# Altium footprint library PCB2.PcbLib: 56 footprints (part 2 of 4)
Each footprint in its own frame and in the unit in brackets; x right, y up, seen from the top. Pads: shape width x height; smd on the part's side, far side on the other; paste and mask are expansions set on the pad; w line width, h text height; cw(c..) or ccw(c..) is an arc to the next point about the centre after c.
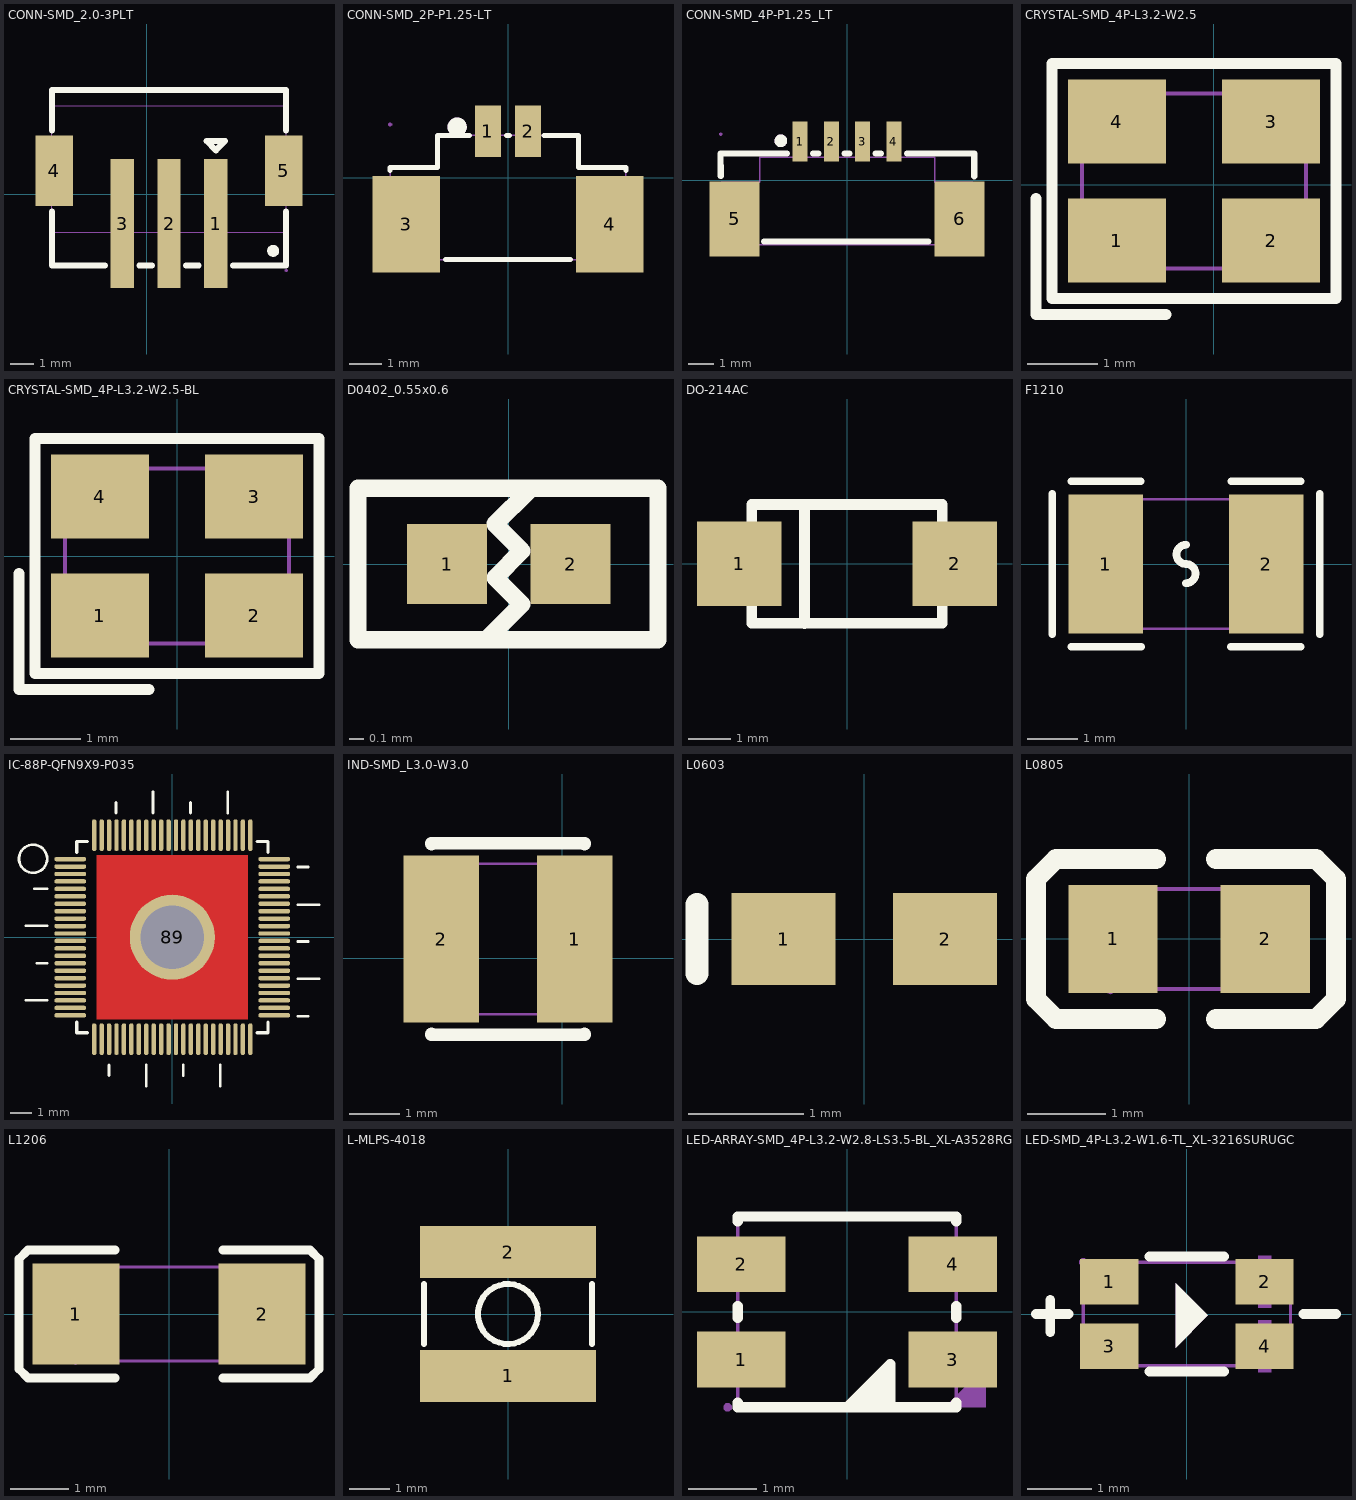
[diagram p1: the footprints below, top view; thin cyan lines are the x and y axes]

## CONN-SMD_2.0-3PLT [mm]
height 6.86
pads (5):
  rect 1x5.5 smd: 1(2.95,-1.263) 2(0.95,-1.263) 3(-1.05,-1.263)
  rect 1.6x3 smd: 4(-3.95,0.987) 5(5.85,0.987)
Top Overlay:
  circle w0.254: c5.395,-2.424 r0.127
  lines w0.254: -4.05,-0.744 -4.05,-3.059 -1.781,-3.059 ; -4.05,2.718 -4.05,4.441 5.95,4.441 5.95,2.718 ; -0.319,-3.059 0.219,-3.059 ; 1.681,-3.059 2.219,-3.059 ; 3.681,-3.059 5.95,-3.059 5.95,-0.744 ; 2.55,2.262 2.95,1.862 3.35,2.262 2.55,2.262
Mechanical 6:
  circle w0.4: c2.95,-3.538 r0.2
Mechanical 15:
  region: 6.01,-3.263 6.01,-3.288 5.975,-3.323 5.925,-3.323 5.89,-3.288 5.89,-3.263 5.89,-3.238 5.925,-3.203 5.975,-3.203 6.01,-3.238
  region: -1.3,0.737 -0.8,0.737 -0.8,-3.263 -1.3,-3.263
  region: 0.7,0.737 1.2,0.737 1.2,-3.263 0.7,-3.263
  region: 2.7,0.737 3.2,0.737 3.2,-3.263 2.7,-3.263
  region: 5.95,2.212 5.1,2.212 5.1,-0.188 5.95,-0.188
  region: -4.05,-0.238 -3.3,-0.238 -3.2,-0.238 -3.2,2.162 -3.25,2.162 -4.05,2.162
  lines w0.051: -4.05,-1.638 -4.05,3.762 5.95,3.762 5.95,-1.638 -4.05,-1.638

## CONN-SMD_2P-P1.25-LT [mm]
height 6.86
pads (4):
  rect 0.8x1.6 smd paste+0 mask+0.05: 1(-0.625,1.45) 2(0.625,1.45)
  rect 2.1x3 smd paste+0 mask+0.05: 3(-3.175,-1.45) 4(3.175,-1.45)
Top Overlay:
  circle w0.3: c-1.585,1.58 r0.15
  lines w0.152: -3.68,0.23 -3.68,0.32 -2.2,0.32 -2.2,1.32 -1.205,1.32 ; -1.945,-2.55 1.945,-2.55 ; -0.045,1.32 0.045,1.32 ; 1.12,1.32 2.2,1.32 2.2,0.32 3.68,0.32 3.68,0.23
Mechanical 2:
  circle w0.3: c-1.585,1.58 r0.15
Mechanical 6:
  lines w0.051: -3.675,-2.55 3.675,-2.55 3.675,0.32 2.2,0.32 2.2,1.32 0,1.32 -2.19,1.32 -2.2,0.32 -3.675,0.32 -3.675,-2.55
Mechanical 8:
  region: -3.615,1.66 -3.615,1.635 -3.65,1.6 -3.7,1.6 -3.735,1.635 -3.735,1.66 -3.735,1.685 -3.7,1.72 -3.65,1.72 -3.615,1.685
Mechanical 9:
  region: 2.475,-0.35 3.675,-0.35 3.675,-2.55 2.475,-2.55
  region: -3.675,-0.35 -2.475,-0.35 -2.475,-2.55 -3.675,-2.55
  region: 0.475,1.66 0.775,1.66 0.775,0.66 0.475,0.66
  region: -0.775,1.66 -0.475,1.66 -0.475,0.66 -0.775,0.66

## CONN-SMD_4P-P1.25_LT [mm]
height 6.86
pads (6):
  rect 0.6x1.6 smd paste+0.051: 1(-1.875,1.55) 2(-0.625,1.55) 3(0.625,1.55) 4(1.875,1.55)
  rect 2x3 smd paste+0.051: 5(-4.5,-1.55) 6(4.5,-1.55)
Top Overlay:
  circle w0.254: c-2.647,1.578 r0.127
  lines w0.254: -5.05,0.17 -5.06,1.07 -2.406,1.07 ; -3.32,-2.45 3.25,-2.45 ; -1.344,1.07 -1.156,1.07 ; -0.094,1.07 0.094,1.07 ; 1.156,1.07 1.344,1.07 ; 2.407,1.07 5.09,1.07 5.09,0.16
Mechanical 2:
  circle w0.254: c-2.647,1.578 r0.127
Mechanical 6:
  lines w0.051: -5.05,-2.57 5.05,-2.57 5.05,-0.07 3.5,-0.07 3.5,0.93 -3.5,0.93 -3.5,-0.07 -5.05,-0.07 -5.05,-2.57
Mechanical 8:
  region: -4.99,1.85 -4.99,1.825 -5.025,1.79 -5.075,1.79 -5.11,1.825 -5.11,1.85 -5.11,1.875 -5.075,1.91 -5.025,1.91 -4.99,1.875
Mechanical 9:
  region: -5,-0.95 -4,-0.95 -4,-2.45 -5,-2.45
  region: -0.775,1.85 -0.475,1.85 -0.475,0.85 -0.775,0.85
  region: -2.025,1.85 -1.725,1.85 -1.725,0.85 -2.025,0.85
  region: 4,-0.95 5,-0.95 5,-2.45 4,-2.45
  region: 1.725,1.85 2.025,1.85 2.025,0.85 1.725,0.85
  region: 0.475,1.85 0.775,1.85 0.775,0.85 0.475,0.85

## CRYSTAL-SMD_4P-L3.2-W2.5 [mm]
height 6.86
pads (4):
  rect 1.4x1.2 smd: 1(-1.383,-0.797) 2(0.817,-0.797) 3(0.817,0.903) 4(-1.383,0.903)
Top Overlay:
  lines w0.152: -2.54,-0.197 -2.54,-1.854 -0.683,-1.854 ; -2.311,-1.626 1.746,-1.626 1.746,1.732 -2.311,1.732 -2.311,-1.626
Mechanical 6:
  circle w0.36: c-1.426,-0.836 r0.18
Mechanical 15:
  region: -1.783,-0.297 -0.883,-0.297 -0.883,-1.097 -1.783,-1.097
  region: 0.317,-0.297 1.217,-0.297 1.217,-1.097 0.317,-1.097
  region: 0.317,1.203 1.217,1.203 1.217,0.403 0.317,0.403
  region: -1.783,1.203 -0.883,1.203 -0.883,0.403 -1.783,0.403
  region: -1.823,-1.197 -1.823,-1.172 -1.858,-1.137 -1.908,-1.137 -1.943,-1.172 -1.943,-1.197 -1.943,-1.222 -1.908,-1.257 -1.858,-1.257 -1.823,-1.222
  lines w0.051: -1.883,-1.197 1.317,-1.197 1.317,1.303 -1.883,1.303 -1.883,-1.197

## CRYSTAL-SMD_4P-L3.2-W2.5-BL [mm]
height 6.86
pads (4):
  rect 1.4x1.2 smd: 1(-1.1,-0.85) 2(1.1,-0.85) 3(1.1,0.85) 4(-1.1,0.85)
Top Overlay:
  lines w0.152: -2.257,-0.25 -2.257,-1.907 -0.4,-1.907 ; -2.029,-1.678 2.029,-1.678 2.029,1.679 -2.029,1.679 -2.029,-1.678
Mechanical 6:
  circle w0.36: c-1.143,-0.889 r0.18
Mechanical 15:
  region: -1.5,-0.35 -0.6,-0.35 -0.6,-1.15 -1.5,-1.15
  region: 0.6,-0.35 1.5,-0.35 1.5,-1.15 0.6,-1.15
  region: 0.6,1.15 1.5,1.15 1.5,0.35 0.6,0.35
  region: -1.5,1.15 -0.6,1.15 -0.6,0.35 -1.5,0.35
  region: -1.665,-1.25 -1.646,-1.204 -1.6,-1.185 -1.554,-1.204 -1.535,-1.25 -1.554,-1.296 -1.6,-1.315 -1.646,-1.296
  lines w0.051: -1.6,-1.25 1.6,-1.25 1.6,1.25 -1.6,1.25 -1.6,-1.25

## D0402_0.55x0.6 [mm]
height 6.86
pads (2):
  rect 0.55x0.55 smd: 1(-0.425,0) 2(0.425,0)
Top Overlay:
  lines w0.12: -0.152,-0.518 0.089,-0.277 -0.094,-0.094 0.09,0.09 -0.094,0.273 -0.094,0.276 0.138,0.508 ; -1.039,-0.52 1.026,-0.52 1.026,0.52 -1.039,0.52 -1.039,-0.52

## DO-214AC [mm]
height 6.86
pads (2):
  rect 2x2 smd: 1(-2.54,0) 2(2.54,0)
Top Overlay:
  lines w0.254: -1.005,-1.407 -1.005,1.396 ; -2.25,-1.4 -2.25,1.4 2.25,1.4 2.25,-1.4 -2.25,-1.4

## F1210 [mm]
height 6.86
pads (2):
  rect 1.485x2.781 smd: 1(-1.6,0) 2(1.6,0)
Top Overlay:
  lines w0.152: -2.667,-1.397 -2.667,1.397 ; -2.286,-1.651 -0.889,-1.651 ; -2.286,1.651 -0.903,1.651 ; 0,-0.381 ccw(c0,-0.191) 0,0 cw(c0,0.191) 0,0.381 ; 0.889,-1.651 2.286,-1.651 ; 0.903,1.651 2.286,1.651 ; 2.667,-1.397 2.667,1.397
Top Paste:
  region: 0.858,-1.29 0.858,-0.573 0.958,-0.473 1.262,-0.473 1.362,-0.373 1.362,0.373 1.262,0.473 0.958,0.473 0.858,0.573 0.858,1.29 0.958,1.39 2.242,1.39 2.342,1.29 2.342,-1.29 2.242,-1.39 0.958,-1.39
  region: -0.858,-1.29 -0.858,-0.573 -0.958,-0.473 -1.262,-0.473 -1.362,-0.373 -1.362,0.373 -1.262,0.473 -0.958,0.473 -0.858,0.573 -0.858,1.29 -0.958,1.39 -2.242,1.39 -2.342,1.29 -2.342,-1.29 -2.242,-1.39 -0.958,-1.39
Mechanical 15:
  region: -1.672,-1.288 -1.653,-1.333 -1.608,-1.352 -1.562,-1.333 -1.543,-1.288 -1.562,-1.242 -1.608,-1.223 -1.653,-1.242
  region: -1.607,-1.288 -1.607,1.288 -1.107,1.288 -1.107,-1.288
  region: 1.607,-1.288 1.607,1.288 1.107,1.288 1.107,-1.288
  lines w0.051: -1.607,-1.288 -1.607,1.288 1.607,1.288 1.607,-1.288 -1.607,-1.288

## IC-88P-QFN9X9-P035 [mm]
height 1.27
pads (89):
  oval 1.5x0.21 smd: 1(-4.8,3.675) 2(-4.8,3.325) 3(-4.8,2.975) 4(-4.8,2.625) 5(-4.8,2.275) 6(-4.8,1.925) 7(-4.8,1.575) 8(-4.8,1.225) 9(-4.8,0.875) 10(-4.8,0.525) 11(-4.8,0.175) 12(-4.8,-0.175) 13(-4.8,-0.525) 14(-4.8,-0.875) 15(-4.8,-1.225) 16(-4.8,-1.575) 17(-4.8,-1.925) 18(-4.8,-2.275) 19(-4.8,-2.625) 20(-4.8,-2.975) 21(-4.8,-3.325) 22(-4.8,-3.675) 45(4.8,-3.675) 46(4.8,-3.325) 47(4.8,-2.975) 48(4.8,-2.625) 49(4.8,-2.275) 50(4.8,-1.925) 51(4.8,-1.575) 52(4.8,-1.225) 53(4.8,-0.875) 54(4.8,-0.525) 55(4.8,-0.175) 56(4.8,0.175) 57(4.8,0.525) 58(4.8,0.875) 59(4.8,1.225) 60(4.8,1.575) 61(4.8,1.925) 62(4.8,2.275) 63(4.8,2.625) 64(4.8,2.975) 65(4.8,3.325) 66(4.8,3.675)
  oval 0.21x1.5 smd: 23(-3.675,-4.8) 24(-3.325,-4.8) 25(-2.975,-4.8) 26(-2.625,-4.8) 27(-2.275,-4.8) 28(-1.925,-4.8) 29(-1.575,-4.8) 30(-1.225,-4.8) 31(-0.875,-4.8) 32(-0.525,-4.8) 33(-0.175,-4.8) 34(0.175,-4.8) 35(0.525,-4.8) 36(0.875,-4.8) 37(1.225,-4.8) 38(1.575,-4.8) 39(1.925,-4.8) 40(2.275,-4.8) 41(2.625,-4.8) 42(2.975,-4.8) 43(3.325,-4.8) 44(3.675,-4.8) 67(3.675,4.8) 68(3.325,4.8) 69(2.975,4.8) 70(2.625,4.8) 71(2.275,4.8) 72(1.925,4.8) 73(1.575,4.8) 74(1.225,4.8) 75(0.875,4.8) 76(0.525,4.8) 77(0.175,4.8) 78(-0.175,4.8) 79(-0.525,4.8) 80(-0.875,4.8) 81(-1.225,4.8) 82(-1.575,4.8) 83(-1.925,4.8) 84(-2.275,4.8) 85(-2.625,4.8) 86(-2.975,4.8) 87(-3.325,4.8) 88(-3.675,4.8)
  round 4 hole 3: 89(0,0)
Top Layer:
  region: -3.55,3.85 -3.55,-3.85 3.55,-3.85 3.55,3.85
Top Overlay:
  circle w0.127: c-6.55,3.691 r0.663
  lines w0.127: -6.884,-2.969 -5.884,-2.969 ; -6.884,0.532 -5.884,0.532 ; -6.484,2.28 -5.884,2.28 ; -6.384,-1.225 -5.884,-1.225 ; -2.98,-6.512 -2.98,-6.012 ; -2.651,5.843 -2.651,6.343 ; -1.22,-7.012 -1.22,-6.012 ; -0.903,5.843 -0.903,6.843 ; 0.52,-6.512 0.52,-6.012 ; 0.862,5.843 0.862,6.343 ; 2.26,-7.012 2.26,-6.012 ; 2.607,5.843 2.607,6.843 ; 5.905,-3.718 6.405,-3.718 ; 5.905,-1.956 6.905,-1.956 ; 5.905,-0.203 6.405,-0.203 ; 5.905,1.532 6.905,1.532 ; 5.905,3.302 6.405,3.302
  lines w0.152: -4.5,-4 -4.5,-4.5 -4,-4.5 ; -4.5,4 -4.5,4.5 -4,4.5 ; 4,-4.5 4.5,-4.5 4.5,-4 ; 4,4.5 4.5,4.5 4.5,4

## IND-SMD_L3.0-W3.0 [mm]
height 6.86
pads (2):
  rect 1.5x3.32 smd mask+0.102: 1(0.247,0.381) 2(-2.409,0.381)
Top Overlay:
  lines w0.254: -2.605,-1.51 -2.605,-1.524 0.443,-1.524 0.443,-1.51 ; -2.605,2.272 -2.605,2.286 0.443,2.286 0.443,2.272
Mechanical 6:
  lines w0.051: -2.581,-1.119 0.419,-1.119 0.419,1.881 -2.581,1.881 -2.581,-1.119
Mechanical 8:
  region: -2.521,-1.119 -2.521,-1.144 -2.556,-1.179 -2.606,-1.179 -2.641,-1.144 -2.641,-1.119 -2.641,-1.094 -2.606,-1.059 -2.556,-1.059 -2.521,-1.094
Mechanical 9:
  region: 0.419,-1.069 0.419,1.831 -0.331,1.831 -0.331,-1.069
  region: -2.581,-1.069 -2.581,1.831 -1.831,1.831 -1.831,-1.069

## L0603 [mm] "Chip Inductor; Body 1.6 x 0.8 mm (LxW typ)"
height 0.55
pads (2):
  rect 0.9x0.8 smd: 1(-0.7,0) 2(0.7,0)
Top Overlay:
  lines w0.2: -1.45,-0.3 -1.45,0.3

## L0805 [mm]
height 6.86
pads (2):
  rect 1.133x1.377 smd: 1(-0.966,0) 2(0.966,0)
Top Overlay:
  lines w0.254: -0.421,-1.016 -1.691,-1.016 -1.945,-0.762 -1.945,-0.635 -1.945,0.762 -1.691,1.016 -1.564,1.016 -0.421,1.016 ; 0.341,-1.016 1.484,-1.016 1.611,-1.016 1.865,-0.762 1.865,0.635 1.865,0.762 1.611,1.016 0.341,1.016
Top Paste:
  region: -0.36,-0.22 -0.36,0.22 -0.745,0.689 -1.433,0.689 -1.533,0.589 -1.533,-0.588 -1.433,-0.688 -0.745,-0.688
  region: 0.36,-0.22 0.36,0.22 0.745,0.689 1.433,0.689 1.533,0.589 1.533,-0.588 1.433,-0.688 0.745,-0.688
Mechanical 15:
  region: 1,-0.637 1,0.638 0.6,0.638 0.6,-0.637
  region: -1,-0.637 -1,0.638 -0.6,0.638 -0.6,-0.637
  region: -1,-0.573 -1.046,-0.592 -1.065,-0.637 -1.046,-0.683 -1,-0.702 -0.954,-0.683 -0.935,-0.637 -0.954,-0.592
  lines w0.051: -1,-0.637 -1,0.638 1,0.638 1,-0.637 -1,-0.637

## L1206 [mm]
height 6.86
pads (2):
  rect 1.485x1.728 smd: 1(-1.593,0) 2(1.593,0)
Top Overlay:
  lines w0.152: -0.926,-1.093 -2.411,-1.093 -2.564,-0.94 -2.564,0.94 -2.411,1.093 -0.926,1.093 ; 0.926,-1.093 2.411,-1.093 2.564,-0.94 2.564,0.94 2.411,1.093 0.926,1.093
Top Paste:
  region: 0.85,-0.764 0.85,-0.394 0.95,-0.294 1.255,-0.294 1.355,-0.194 1.355,0.194 1.255,0.294 0.95,0.294 0.85,0.394 0.85,0.764 0.95,0.864 2.235,0.864 2.335,0.764 2.335,-0.764 2.235,-0.864 0.95,-0.864
  region: -0.85,-0.764 -0.85,-0.394 -0.95,-0.294 -1.255,-0.294 -1.355,-0.194 -1.355,0.194 -1.255,0.294 -0.95,0.294 -0.85,0.394 -0.85,0.764 -0.95,0.864 -2.235,0.864 -2.335,0.764 -2.335,-0.764 -2.235,-0.864 -0.95,-0.864
Mechanical 15:
  region: -1.665,-0.8 -1.646,-0.754 -1.6,-0.735 -1.554,-0.754 -1.535,-0.8 -1.554,-0.846 -1.6,-0.865 -1.646,-0.846
  region: -1.6,-0.8 -1.6,0.8 -1.1,0.8 -1.1,-0.8
  region: 1.6,-0.8 1.6,0.8 1.1,0.8 1.1,-0.8
  lines w0.051: -1.6,-0.8 -1.6,0.8 1.6,0.8 1.6,-0.8 -1.6,-0.8

## L-MLPS-4018 [mm]
height 6.86
pads (2):
  rect 4.4x1.3 smd: 1(0,-1.55) 2(0,1.55)
Top Overlay:
  circle w0.15: c0,0 r0.75
  lines w0.15: -2.1,-0.75 -2.1,0.75 ; 2.1,-0.75 2.1,0.75

## LED-ARRAY-SMD_4P-L3.2-W2.8-LS3.5-BL_XL-A3528RGBC-BM [mm]
height 6.86
pads (4):
  rect 1.3x0.82 smd paste+0 mask+0.05: 1(-1.55,-0.7) 2(-1.55,0.7) 3(1.55,-0.7) 4(1.55,0.7)
Top Overlay:
  region: 0.605,-0.797 0.005,-1.397 0.605,-1.397
  lines w0.152: -1.6,-1.33 -1.6,-1.4 1.6,-1.4 1.6,-1.33 ; -1.6,-0.085 -1.6,0.085 ; -1.6,1.33 -1.6,1.4 1.6,1.4 1.6,1.33 ; -0.371,-1.397 0.005,-1.397 0.635,-0.77 0.635,-1.397 ; 1.6,-0.085 1.6,0.085
Mechanical 2:
  region: -1.2,0.715 -1.8,0.715 -1.8,0.615 -1.3,0.615 -1.2,0.615
  region: 1.905,0.762 1.305,0.762 1.305,0.662 1.805,0.662 1.905,0.662
  region: 2.032,-1.397 2.032,-0.797 1.432,-1.397
  region: 1.8,-0.615 1.2,-0.615 1.2,-0.715 1.7,-0.715 1.8,-0.715
  region: -1.2,-0.785 -1.8,-0.785 -1.8,-0.885 -1.3,-0.885 -1.2,-0.885
  region: -1.55,0.965 -1.55,0.365 -1.45,0.365 -1.45,0.865 -1.45,0.965
  region: 1.55,0.965 1.55,0.365 1.65,0.365 1.65,0.865 1.65,0.965
  region: 1.45,-0.365 1.45,-0.965 1.55,-0.965 1.55,-0.465 1.55,-0.365
Mechanical 6:
  lines w0.051: -1.6,-1.4 -1.6,1.4 1.6,1.4 1.6,-1.4 -1.6,-1.4
Mechanical 8:
  region: -1.69,-1.4 -1.69,-1.425 -1.725,-1.46 -1.775,-1.46 -1.81,-1.425 -1.81,-1.4 -1.81,-1.375 -1.775,-1.34 -1.725,-1.34 -1.69,-1.375
Mechanical 9:
  region: 1.75,-0.308 1.75,-1.093 0.95,-1.093 0.95,-0.308
  region: -1.75,-1.093 -1.75,-0.307 -0.95,-0.307 -0.95,-1.093
  region: -1.75,0.307 -1.75,1.093 -0.95,1.093 -0.95,0.307
  region: 1.75,1.093 1.75,0.308 0.95,0.308 0.95,1.093

## LED-SMD_4P-L3.2-W1.6-TL_XL-3216SURUGC [mm]
height 6.86
pads (4):
  rect 0.9x0.7 smd paste+0.051: 1(-1.2,0.5) 2(1.2,0.5) 3(-1.2,-0.5) 4(1.2,-0.5)
Top Overlay:
  region: -0.174,-0.521 -0.174,0.479 0.326,-0.021
  lines w0.152: -2.329,0 -1.829,0 ; -2.108,-0.279 -2.108,0.221 ; -0.574,-0.889 0.574,-0.889 ; -0.574,0.889 0.574,0.889 ; 1.803,0 2.303,0
Mechanical 2:
  region: -0.174,-0.521 -0.174,0.479 0.326,-0.021
  region: 1.1,-0.9 1.3,-0.9 1.3,-0.1 1.1,-0.1
  region: 0.8,-0.4 0.8,-0.6 1.6,-0.6 1.6,-0.4
  region: 1.1,0.1 1.3,0.1 1.3,0.9 1.1,0.9
  region: 0.8,0.6 0.8,0.4 1.6,0.4 1.6,0.6
  region: -1.6,-0.4 -1.6,-0.6 -0.8,-0.6 -0.8,-0.4
  region: -1.6,0.6 -1.6,0.4 -0.8,0.4 -0.8,0.6
Mechanical 6:
  lines w0.051: -1.6,-0.8 1.6,-0.8 1.6,0.8 -1.6,0.8 -1.6,-0.8
Mechanical 8:
  region: -1.54,0.8 -1.54,0.775 -1.575,0.74 -1.625,0.74 -1.66,0.775 -1.66,0.8 -1.66,0.825 -1.625,0.86 -1.575,0.86 -1.54,0.825
Mechanical 9:
  region: -1.6,0.8 -0.8,0.8 -0.8,0.2 -1.6,0.2
  region: -1.6,-0.2 -0.8,-0.2 -0.8,-0.8 -1.6,-0.8
  region: 0.8,-0.2 1.6,-0.2 1.6,-0.8 0.8,-0.8
  region: 0.8,0.8 1.6,0.8 1.6,0.2 0.8,0.2